# EAGLE library part LA1265 (library la1265)
AM/FM tuner.
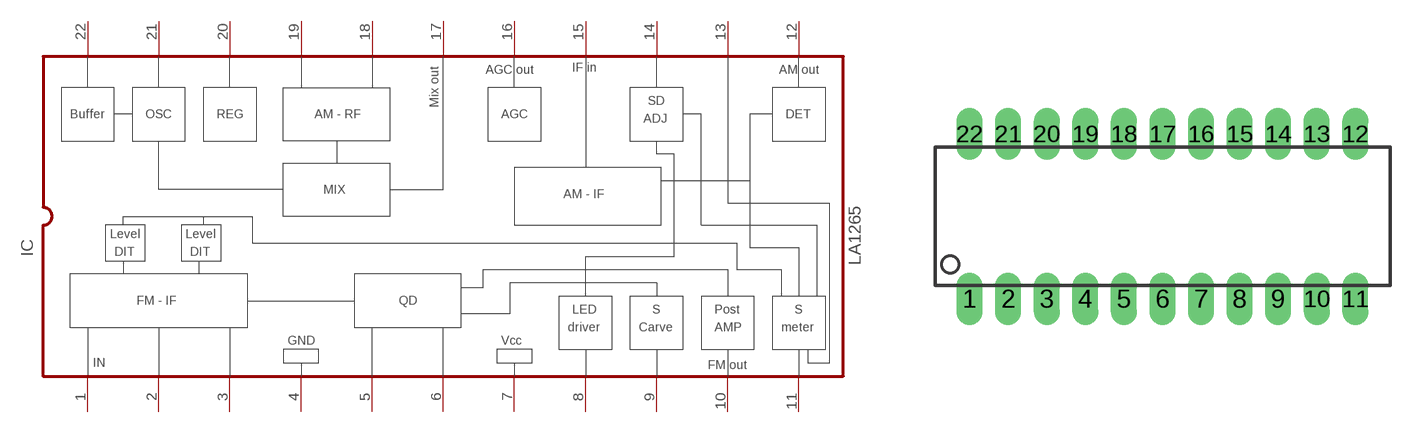
[diagram p0: symbol with the pads of DIP22S; footprint DIP22S]

Designator prefix IC

## LA1265  [DIP22S]
1  1  pas
2  2  pas
3  3  pas
4  4  pwr
5  5  pas
6  6  pas
7  7  pwr
8  8  pas
9  9  pas
10  10  pas
11  11  pas
12  12  pas
13  13  pas
14  14  pas
15  15  pas
16  16  pas
17  17  pas
18  18  pas
19  19  pas
20  20  pas
21  21  pas
22  22  pas

## Footprint DIP22S (pad centres in mm)
drill 0.7 pad 1.2 long: 1 -8.9,-3.81; 2 -7.12,-3.81; 3 -5.34,-3.81; 4 -3.56,-3.81; 5 -1.78,-3.81; 6 0,-3.81; 7 1.78,-3.81; 8 3.56,-3.81; 9 5.34,-3.81; 10 7.12,-3.81; 11 8.9,-3.81; 12 8.9,3.81; 13 7.112,3.81; 14 5.34,3.81; 15 3.56,3.81; 16 1.78,3.81; 17 0,3.81; 18 -1.78,3.81; 19 -3.56,3.81; 20 -5.34,3.81; 21 -7.12,3.81; 22 -8.9,3.81